# EAGLE library part DUAL-PNP-TRANSISTOR (library FaBo-Transistor)
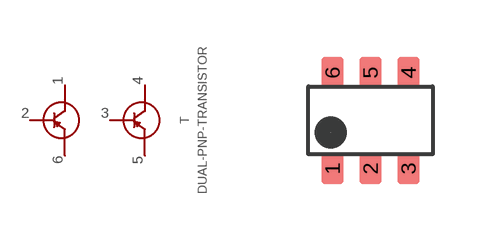
[diagram p0: symbol with the pads of SOT-26; footprint SOT-26]

Designator prefix T

## DUAL-PNP-TRANSISTORDMMT5401  [SOT-26]
1  C1
2  B1
3  B2
4  C2
5  E2
6  E1

## Footprint SOT-26 (pad centres in mm)
smd 0.55 x 0.8: 1 -0.95,-1.2; 2 0,-1.2; 3 0.95,-1.2; 4 0.95,1.2; 5 0,1.2; 6 -0.95,1.2